# EAGLE library part PIC18F2550-SOIC28 (library AllAboutEE)
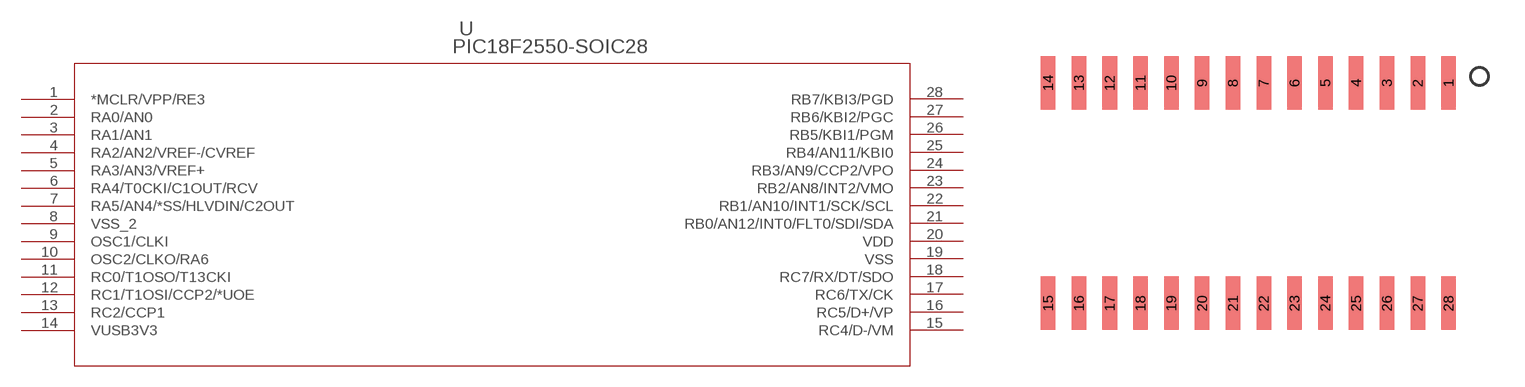
[diagram p14: symbol with the pads of SOIC-28; footprint SOIC-28]

Designator prefix -

## PIC18F2550-SOIC28  [SOIC-28]
1  *MCLR/VPP/RE3  pas
2  RA0/AN0  pas
3  RA1/AN1  pas
4  RA2/AN2/VREF-/CVREF  pas
5  RA3/AN3/VREF+  pas
6  RA4/T0CKI/C1OUT/RCV  pas
7  RA5/AN4/*SS/HLVDIN/C2OUT  pas
8  VSS_2  pas
9  OSC1/CLKI  pas
10  OSC2/CLKO/RA6  pas
11  RC0/T1OSO/T13CKI  pas
12  RC1/T1OSI/CCP2/*UOE  pas
13  RC2/CCP1  pas
14  VUSB3V3  pas
15  RC4/D-/VM  pas
16  RC5/D+/VP  pas
17  RC6/TX/CK  pas
18  RC7/RX/DT/SDO  pas
19  VSS  pas
20  VDD  pas
21  RB0/AN12/INT0/FLT0/SDI/SDA  pas
22  RB1/AN10/INT1/SCK/SCL  pas
23  RB2/AN8/INT2/VMO  pas
24  RB3/AN9/CCP2/VPO  pas
25  RB4/AN11/KBI0  pas
26  RB5/KBI1/PGM  pas
27  RB6/KBI2/PGC  pas
28  RB7/KBI3/PGD  pas

## Footprint SOIC-28 (pad centres in mm)
smd 0.6 x 2.2: 1 8.89,4.548; 2 7.62,4.548; 3 6.35,4.548; 4 5.08,4.548; 5 3.81,4.548; 6 2.54,4.548; 7 1.27,4.548; 8 0,4.548; 9 -1.27,4.548; 10 -2.54,4.548; 11 -3.81,4.548; 12 -5.08,4.548; 13 -6.35,4.548; 14 -7.62,4.548; 15 -7.62,-4.548; 16 -6.35,-4.548; 17 -5.08,-4.548; 18 -3.81,-4.548; 19 -2.54,-4.548; 20 -1.27,-4.548; 21 0,-4.548; 22 1.27,-4.548; 23 2.54,-4.548; 24 3.81,-4.548; 25 5.08,-4.548; 26 6.35,-4.548; 27 7.62,-4.548; 28 8.89,-4.548